# Altium footprint library USB-RS485(CH340).PcbLib: 1 footprints
Each footprint in its own frame and in the unit in brackets; x right, y up, seen from the top. Pads: shape width x height; smd on the part's side, far side on the other; paste and mask are expansions set on the pad; w line width, h text height; cw(c..) or ccw(c..) is an arc to the next point about the centre after c.
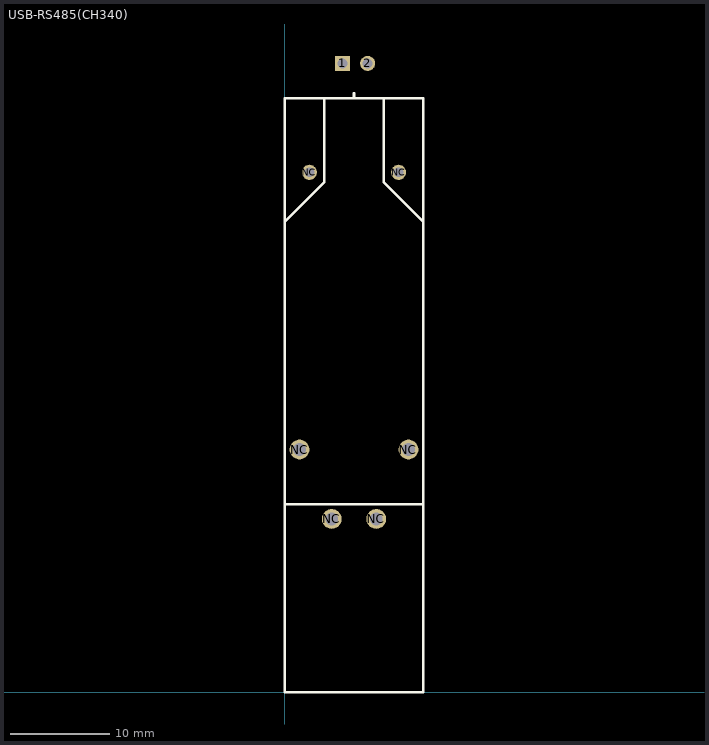
[diagram p0: the footprint, top view; thin cyan lines are the x and y axes]

## USB-RS485(CH340) [mm]
pads (8):
  rect 1.524x1.524 hole 1.016: 1(5.842,63.5)
  round 1.524 hole 1.016: 2(8.382,63.5)
  round 2 hole 1.3: NC(1.5,24.5) NC(4.75,17.5) NC(9.25,17.5) NC(12.5,24.5)
  round 1.524 hole 1: NC(2.5,52.5) NC(11.5,52.5)
Top Overlay:
  lines w0.254: 0,19 14,19 ; 0,47.5 4,51.5 ; 7,60 7,60.5 ; 14,47.5 10,51.5 ; 4,51.5 4,60 10,60 10,51.5 ; 4,51.5 4,51.5 ; 10,51.5 10,51.5 ; 10,51.5 10,51.5 ; 0,0 0,60 14,60 14,0 0,0
3D body: height 3, standoff 1, extent 0,19 14,60
3D body: height 4.5, standoff 0, extent 0,0 14,19